# EAGLE library part FPC_30_ERC12864-2 (library XP9300)
0.5mm Pitch Connectors For FPC/FFC Source: Data sheet <http://www.hirose.co.jp/cataloge_hp/e58605370.pdf>
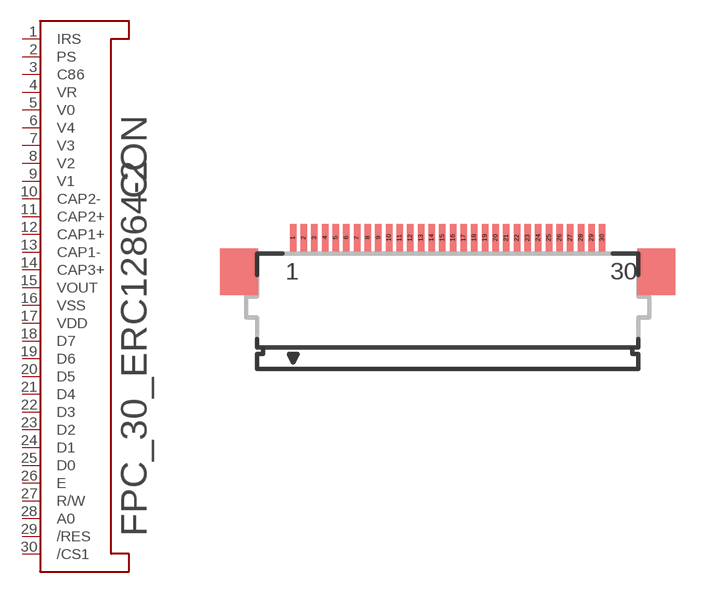
[diagram p5: symbol with the pads of FH12-30S-0.5SH; footprint FH12-30S-0.5SH]

Designator prefix CON

## FPC_30_ERC12864-2 (VALUE: ERC12864-2)  [FH12-30S-0.5SH]
1  IRS
2  PS
3  C86
4  VR
5  V0
6  V4
7  V3
8  V2
9  V1
10  CAP2-
11  CAP2+
12  CAP1+
13  CAP1-
14  CAP3+
15  VOUT
16  VSS
17  VDD
18  D7
19  D6
20  D5
21  D4
22  D3
23  D2
24  D1
25  D0
26  E
27  R/W
28  A0
29  /RES
30  /CS1

## Footprint FH12-30S-0.5SH (pad centres in mm)
0.5mm Pitch Connectors For FPC/FFC Source: Data sheet <http://www.hirose.co.jp/cataloge_hp/e58605370.pdf>
smd 0.3 x 1.3: 1 -7.02,2.66; 2 -6.52,2.66; 3 -6.02,2.66; 4 -5.52,2.66; 5 -5.02,2.66; 6 -4.52,2.66; 7 -4.02,2.66; 8 -3.52,2.66; 9 -3.02,2.66; 10 -2.52,2.66; 11 -2.02,2.66; 12 -1.52,2.66; 13 -1.02,2.66; 14 -0.52,2.66; 15 -0.02,2.66; 16 0.48,2.66; 17 0.98,2.66; 18 1.48,2.66; 19 1.98,2.66; 20 2.48,2.66; 21 2.98,2.66; 22 3.48,2.66; 23 3.98,2.66; 24 4.48,2.66; 25 4.98,2.66; 26 5.48,2.66; 27 5.98,2.66; 28 6.48,2.66; 29 6.98,2.66; 30 7.48,2.66